# EAGLE library part SI8422NB (library si84xx)
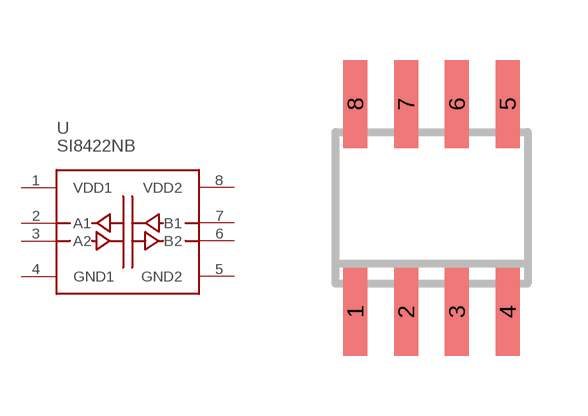
[diagram p0: symbol with the pads of SOIC8; footprint SOIC8]

Designator prefix -

## SI8422NB  [SOIC8]
1  VDD1
2  A1
3  A2
4  GND1
5  GND2
6  B2
7  B1
8  VDD2

## Footprint SOIC8 (pad centres in mm)
Small Outline IC
smd 0.6 x 2.2: 1 -1.905,-2.6; 2 -0.635,-2.6; 3 0.635,-2.6; 4 1.905,-2.6; 5 1.905,2.6; 6 0.635,2.6; 7 -0.635,2.6; 8 -1.905,2.6